# Altium footprint library Compact Flash Reader2.PcbLib: 38 footprints (part 3 of 3)
Each footprint in its own frame and in the unit in brackets; x right, y up, seen from the top. Pads: shape width x height; smd on the part's side, far side on the other; paste and mask are expansions set on the pad; w line width, h text height; cw(c..) or ccw(c..) is an arc to the next point about the centre after c.
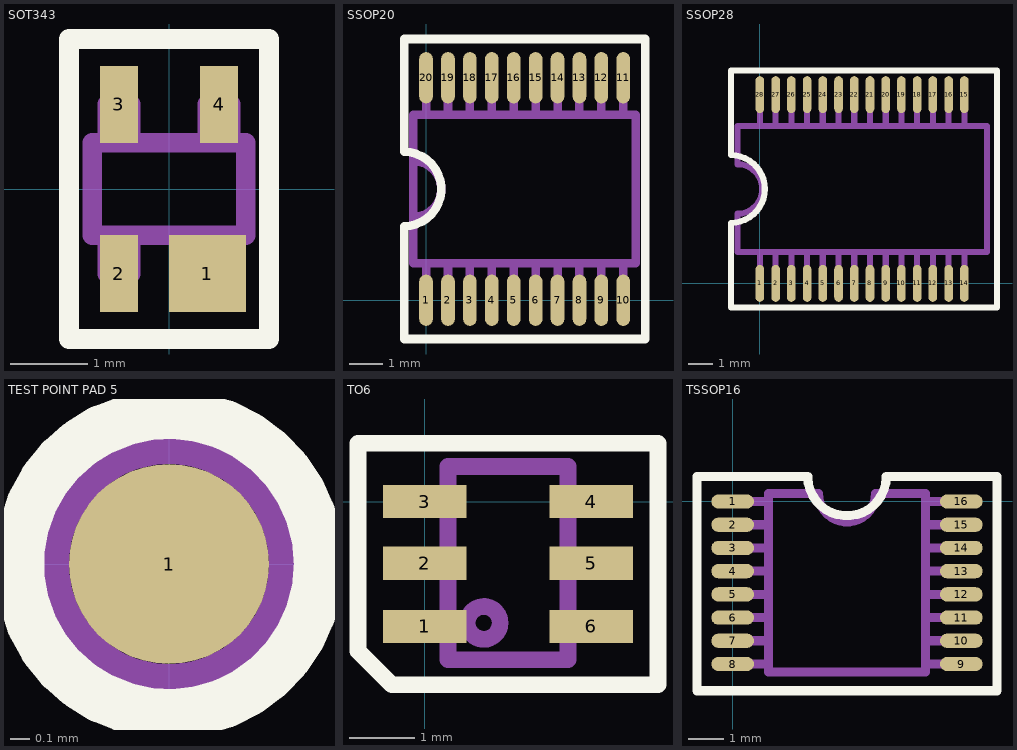
[diagram p2: the footprints below, top view; thin cyan lines are the x and y axes]

## SOT343 [mm]
pads (4):
  rect 1x1 smd: 1(0.5,-1.1)
  rect 0.5x1 smd: 2(-0.65,-1.1) 3(-0.65,1.1) 4(0.65,1.1)
Top Overlay:
  lines w0.254: -1.3,-1.95 0,-1.95 1.3,-1.95 1.3,0 1.3,1.95 0,1.95 -1.3,1.95 -1.3,0 -1.3,-1.95
Mechanical 1:
  lines w0.254: -0.8,-0.6 -0.8,-1.1 -0.5,-1.1 -0.5,-0.6 ; -0.8,0.6 -0.8,1.1 -0.5,1.1 -0.5,0.6 ; 0.5,-0.6 0.15,-0.6 0.15,-1.1 0.85,-1.1 0.85,-0.6 ; 0.5,0.6 0.5,1.1 0.8,1.1 0.8,0.6 ; -0.5,0.6 -1,0.6 -1,-0.6 1,-0.6 1,0.6 -0.5,0.6

## SSOP20 [mil]
pads (20):
  oval 16x60 smd: 1(0,0) 2(25.59,0) 3(51.18,0) 4(76.77,0) 5(102.36,0) 6(127.95,0) 7(153.54,0) 8(179.13,0) 9(204.72,0) 10(230.31,0) 11(230.31,259.84) 12(204.72,259.84) 13(179.13,259.84) 14(153.54,259.84) 15(127.95,259.84) 16(102.36,259.84) 17(76.77,259.84) 18(51.18,259.84) 19(25.59,259.84) 20(0,259.84)
Top Overlay:
  lines w10: -25.59,-45.28 190.94,-45.28 255.91,-45.28 255.91,129.92 255.91,305.12 39.37,305.12 -25.59,305.12 -25.59,173.27 cw(c-25.59,129.92) -25.59,86.57 -25.59,-45.28
Mechanical 1:
  lines w10: -14.76,97.44 ccw(c-14.76,129.92) -14.76,162.4 ; -14.76,129.92 -14.76,43.31 ; 0,0 0,43.31 ; 0,216.54 0,259.84 ; 25.59,0 25.59,43.31 ; 25.59,216.54 25.59,259.84 ; 51.18,0 51.18,43.31 ; 51.18,216.54 51.18,259.84 ; 76.77,0 76.77,43.31 ; 76.77,216.54 76.77,259.84 ; 102.36,0 102.36,43.31 ; 102.36,216.54 102.36,259.84 ; 127.95,0 127.95,43.31 ; 127.95,216.54 127.95,259.84 ; 153.54,0 153.54,43.31 ; 153.54,216.54 153.54,259.84 ; 179.13,0 179.13,43.31 ; 179.13,216.54 179.13,259.84 ; 204.72,0 204.72,43.31 ; 204.72,216.54 204.72,259.84 ; 230.31,0 230.31,43.31 ; 230.31,216.54 230.31,259.84 ; -14.76,43.31 -14.76,216.54 245.08,216.54 245.08,43.31 -14.76,43.31

## SSOP28 [mil]
pads (28):
  oval 14x60 smd: 1(0,0) 2(25.59,0) 3(51.18,0) 4(76.77,0) 5(102.36,0) 6(127.95,0) 7(153.54,0) 8(179.13,0) 9(204.72,0) 10(230.31,0) 11(255.91,0) 12(281.5,0) 13(307.09,0) 14(332.68,0) 15(332.68,307.09) 16(307.09,307.09) 17(281.5,307.09) 18(255.91,307.09) 19(230.31,307.09) 20(204.72,307.09) 21(179.13,307.09) 22(153.54,307.09) 23(127.95,307.09) 24(102.36,307.09) 25(76.77,307.09) 26(51.18,307.09) 27(25.59,307.09) 28(0,307.09)
Top Overlay:
  lines w10: -47.24,-39.37 -47.24,98.43 ccw(c-47.24,153.54) -47.24,208.66 -47.24,346.46 385.83,346.46 385.83,-39.37 -47.24,-39.37
Mechanical 1:
  lines w10: 0,0 0,51.18 ; 0,255.91 0,307.09 ; 25.59,0 25.59,51.18 ; 25.59,255.91 25.59,307.09 ; 51.18,0 51.18,51.18 ; 51.18,255.91 51.18,307.09 ; 76.77,0 76.77,51.18 ; 76.77,255.91 76.77,307.09 ; 102.36,0 102.36,51.18 ; 102.36,255.91 102.36,307.09 ; 127.95,0 127.95,51.18 ; 127.95,255.91 127.95,307.09 ; 153.54,0 153.54,51.18 ; 153.54,255.91 153.54,307.09 ; 166.54,51.18 -36.22,51.18 ; 179.13,0 179.13,51.18 ; 179.13,255.91 179.13,307.09 ; 204.72,0 204.72,51.18 ; 204.72,255.91 204.72,307.09 ; 230.31,0 230.31,51.18 ; 230.31,255.91 230.31,307.09 ; 255.91,0 255.91,51.18 ; 255.91,255.91 255.91,307.09 ; 281.5,0 281.5,51.18 ; 281.5,255.91 281.5,307.09 ; 307.09,0 307.09,51.18 ; 307.09,255.91 307.09,307.09 ; 332.68,0 332.68,51.18 ; 332.68,255.91 332.68,307.09 ; -36.22,51.18 -36.22,113.39 ccw(c-36.22,153.54) -36.22,193.7 -36.22,255.91 369.29,255.91 369.29,51.18 -36.22,51.18

## TEST POINT PAD 5 [mil]
pads (1):
  round 40 smd: 1(0,0)
Top Overlay:
  circle w10: c0,0 r30
Mechanical 1:
  circle w10: c0,0 r25

## TO6 [mil]
pads (6):
  rect 50x20 smd: 1(0,-75) 2(0,-37) 3(0,0) 4(100,0) 5(100,-37) 6(100,-75)
Top Overlay:
  lines w10: -40,-75 -40,35 ; -40,35 -40,-89.69 -19.68,-110 140,-110 140,35 -40,35
Mechanical 1:
  circle w10: c35.43,-72.83 r9.84
  lines w10: 14,-79 -8,-79 -8,-71 12,-71 14,-69 ; 14,-41 -8,-41 -8,-33 14,-33 ; 14,-3 -8,-3 -8,5 14,5 ; 86,-79 108,-79 108,-71 86,-71 ; 86,-41 108,-41 108,-33 86,-33 ; 86,-3 108,-3 108,5 86,5 ; 14,-95 86,-95 86,21 14,21 14,-95

## TSSOP16 [mm]
pads (16):
  oval 1.2x0.4 smd: 1(0,0) 2(0,-0.65) 3(0,-1.3) 4(0,-1.95) 5(0,-2.6) 6(0,-3.25) 7(0,-3.9) 8(0,-4.55) 9(6.4,-4.55) 10(6.4,-3.9) 11(6.4,-3.25) 12(6.4,-2.6) 13(6.4,-1.95) 14(6.4,-1.3) 15(6.4,-0.65) 16(6.4,0)
Top Overlay:
  lines w0.254: -1,-5.3 7.4,-5.3 7.4,0.7 4.3,0.7 cw(c3.2,0.7) 2.1,0.7 -1,0.7 -1,-5.3
Mechanical 1:
  lines w0.254: 0,-4.55 1,-4.55 ; 0,-3.9 1,-3.9 ; 0,-3.25 1,-3.25 ; 0,-2.6 1,-2.6 ; 0,-1.95 1,-1.95 ; 0,-1.3 1,-1.3 ; 0,-0.65 1,-0.65 ; 0,0 1,0 ; 3.2,-4.775 5.4,-4.775 ; 4.8,-4.775 1,-4.775 ; 5.4,-4.55 6.4,-4.55 ; 5.4,-3.9 6.4,-3.9 ; 5.4,-3.25 6.4,-3.25 ; 5.4,-2.6 6.4,-2.6 ; 5.4,-1.95 6.4,-1.95 ; 5.4,-1.3 6.4,-1.3 ; 5.4,-0.65 6.4,-0.65 ; 5.4,0 6.4,0 ; 1,-4.775 1,-2.275 1,0.225 2.4,0.225 ccw(c3.2,0.225) 4,0.225 5.4,0.225 5.4,-4.775 ; 1,-4.775 5.4,-4.775